# Altium schematic symbol library D_SOD923.SchLib: 1 symbol
Pins are listed as number, name and electrical type; pins without a type are passive.

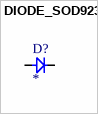
[diagram p0: symbol DIODE_SOD923]

## DIODE_SOD923
designator D?
Manufacturer: *; Manufacturer Part: *; Value: *; Voltage: *
footprint SOD923
pins: 1, 2